# Altium schematic symbol library DRV8313PWP.Schlib: 1 symbol
Pins are listed as number, name and electrical type; pins without a type are passive.

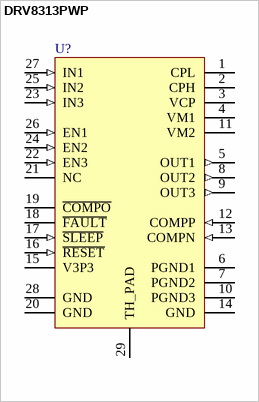
[diagram p0: symbol DRV8313PWP]

## DRV8313PWP
designator U?
65V, 3A, 3-phase motor driver
pins: 1 CPL (power), 2 CPH (power), 3 VCP (power), 4 VM1 (power), 5 OUT1 (out), 6 PGND1 (power), 7 PGND2 (power), 8 OUT2 (out), 9 OUT3 (out), 10 PGND3 (power), 11 VM2 (power), 12 COMPP (in), 13 COMPN (in), 14 GND (power), 15 V3P3 (power), 16 ~{RESET} (in), 17 ~{SLEEP} (in), 18 ~{FAULT} (oc), 19 ~{COMPO}, 20 GND (power), 21 NC, 22 EN3 (in), 23 IN3 (in), 24 EN2 (in), 25 IN2 (in), 26 EN1 (in), 27 IN1 (in), 28 GND (power), 29 TH_PAD (power)